# EAGLE library part TRANSISTOR_UMD12N (library CrazyRemote)
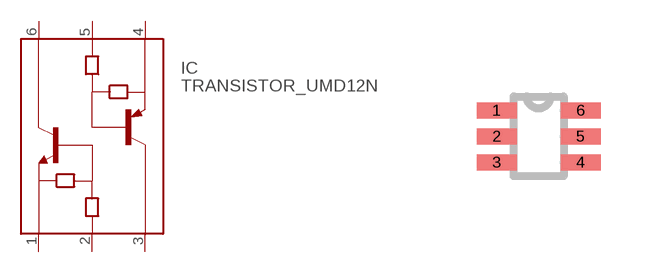
[diagram p12: symbol with the pads of TRANSISTOR_UMT6; footprint TRANSISTOR_UMT6]

Designator prefix IC

## TRANSISTOR_UMD12N  [TRANSISTOR_UMT6]
1  1
2  2
3  3
4  4
5  5
6  6

## Footprint TRANSISTOR_UMT6 (pad centres in mm)
smd 1 x 0.4: 1 -1.05,0.65; 2 -1.05,0; 3 -1.05,-0.65; 4 1.05,-0.65; 5 1.05,0; 6 1.05,0.65